# EAGLE library part AM612 (library motion_detect_masterlib)
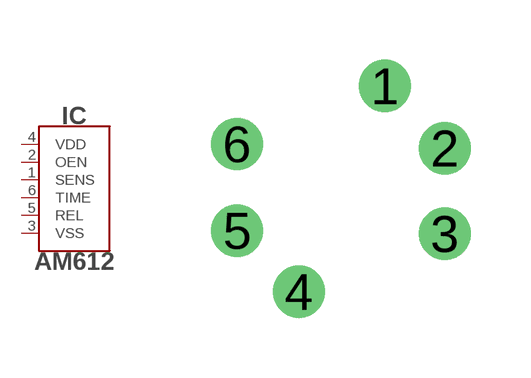
[diagram p3: symbol with the pads of AM612; footprint AM612]

Designator prefix IC

## AM612  [AM612]
1  SENS
2  OEN
3  VSS
4  VDD
5  REL
6  TIME

## Footprint AM612 (pad centres in mm)
drill 0.8: 1 1.05,2.6; 2 2.55,1.04; 3 2.55,-1.1; 4 -1.1,-2.55; 5 -2.65,-1.02; 6 -2.65,1.15